# Altium footprint library 3.5inch_QD-TFT3518_37pin.PcbLib: 1 footprints
Each footprint in its own frame and in the unit in brackets; x right, y up, seen from the top. Pads: shape width x height; smd on the part's side, far side on the other; paste and mask are expansions set on the pad; w line width, h text height; cw(c..) or ccw(c..) is an arc to the next point about the centre after c.
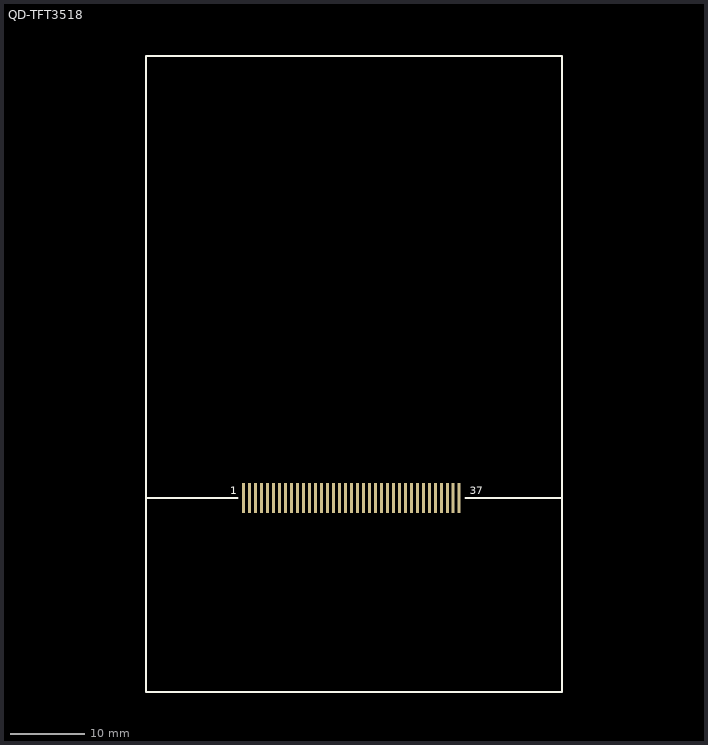
[diagram p0: the footprint, top view; thin cyan lines are the x and y axes]

## QD-TFT3518 [mm] "3.5inch TFT LCD"
pads (37):
  rect 0.4x4 smd: 1(-975.568,-531.112) 2(-974.768,-531.112) 3(-973.968,-531.112) 4(-973.168,-531.112) 5(-972.368,-531.112) 6(-971.568,-531.112) 7(-970.768,-531.112) 8(-969.968,-531.112) 9(-969.168,-531.112) 10(-968.368,-531.112) 11(-967.568,-531.112) 12(-966.768,-531.112) 13(-965.968,-531.112) 14(-965.168,-531.112) 15(-964.368,-531.112) 16(-963.568,-531.112) 17(-962.768,-531.112) 18(-961.968,-531.112) 19(-961.168,-531.112) 20(-960.368,-531.112) 21(-959.568,-531.112) 22(-958.768,-531.112) 23(-957.968,-531.112) 24(-957.168,-531.112) 25(-956.368,-531.112) 26(-955.568,-531.112) 27(-954.768,-531.112) 28(-953.968,-531.112) 29(-953.168,-531.112) 30(-952.368,-531.112) 31(-951.568,-531.112) 32(-950.768,-531.112) 33(-949.968,-531.112) 34(-949.168,-531.112) 35(-948.368,-531.112) 36(-947.568,-531.112) 37(-946.768,-531.112)
Top Overlay:
  lines w0.254: -988.566,-531.112 -976.366,-531.112 ; -945.97,-531.112 -933.069,-531.112 ; -988.568,-557.022 -988.568,-472.062 -933.068,-472.062 -933.068,-557.022 -988.568,-557.022
  text "1" at -977.325,-530.604 h1.02
  text "37" at -945.344,-530.604 h1.02